# Altium schematic symbol library PIEZO.SchLib: 1 symbol
Pins are listed as number, name and electrical type; pins without a type are passive.

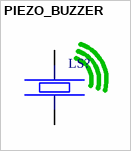
[diagram p0: symbol PIEZO_BUZZER]

## PIEZO_BUZZER
designator LS?
Drawn By: Juan I Carrano
pins: 1, 2